# EAGLE library part 62101621921 (library Wurth_Elektronik2)
WR-PHD 2.00mm Dual SMT Pin Header, 16 Pins=>Code :WR-PHD_SMD_2,00mm_zweireihig62101621921 <http://katalog.we-online.de/media/images/eican/WR-PHD_SMD_2,00mm_zweireihig62103221921.jpg> Details see: http://katalog.we-online.de/en/em/621_0xx_219_21 Created 2014-06-03, Karrer Zheng 2014 (C) Würth Elektronik
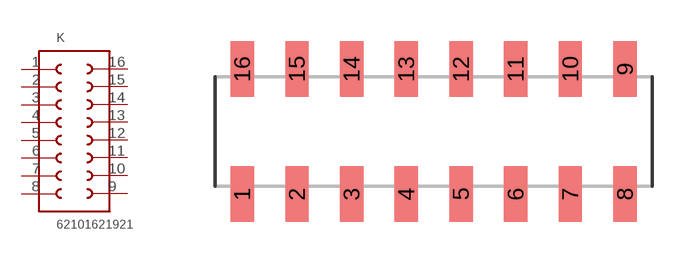
[diagram p246: symbol with the pads of 62101621921; footprint 62101621921]

Designator prefix K

## 62101621921  [62101621921]
1  1  pas
2  2  pas
3  3  pas
4  4  pas
5  5  pas
6  6  pas
7  7  pas
8  8  pas
9  9  pas
10  10  pas
11  11  pas
12  12  pas
13  13  pas
14  14  pas
15  15  pas
16  16  pas

## Footprint 62101621921 (pad centres in mm)
WR-PHD 2.00mm Dual SMT Pin Header, 16 Pins
smd 0.85 x 2.03: 1 -7,-2.285; 2 -5,-2.285; 3 -3,-2.285; 4 -1,-2.285; 5 1,-2.285; 6 3,-2.285; 7 5,-2.285; 8 7,-2.285; 9 7,2.285; 10 5,2.285; 11 3,2.285; 12 1,2.285; 13 -1,2.285; 14 -3,2.285; 15 -5,2.285; 16 -7,2.285